# Altium footprint library QFN_Sq_65P_Side_N.PcbLib: 52 footprints (part 4 of 4)
Each footprint in its own frame and in the unit in brackets; x right, y up, seen from the top. Pads: shape width x height; smd on the part's side, far side on the other; paste and mask are expansions set on the pad; w line width, h text height; cw(c..) or ccw(c..) is an arc to the next point about the centre after c.
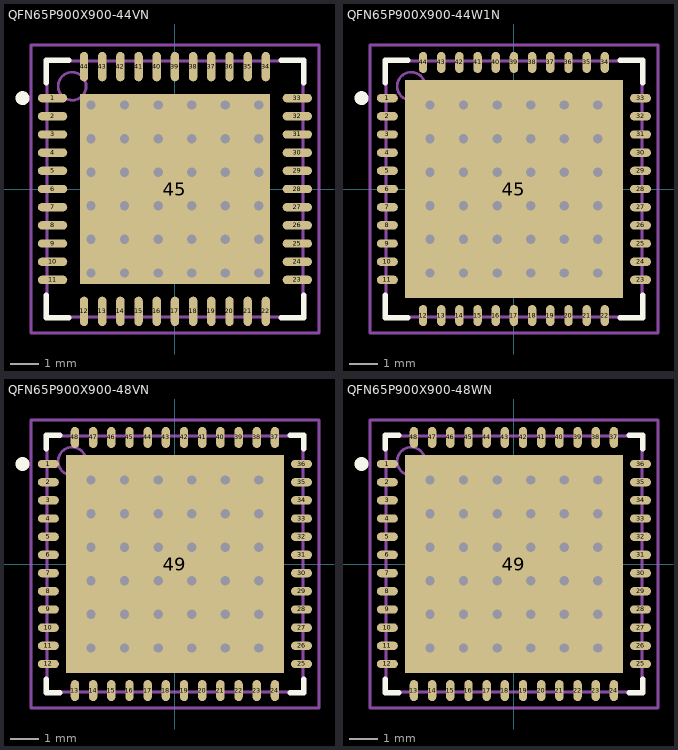
[diagram p3: the footprints below, top view; thin cyan lines are the x and y axes]

## QFN65P900X900-44VN [mm] "QFN, 44-Leads, Body 9x9 mm, Pitch 0.65mm, IPC Medium Density"
height 1
pads (45):
  oval 1.05x0.3 smd: 1(-4.375,3.25) 2(-4.375,2.6) 3(-4.375,1.95) 4(-4.375,1.3) 5(-4.375,0.65) 6(-4.375,0) 7(-4.375,-0.65) 8(-4.375,-1.3) 9(-4.375,-1.95) 10(-4.375,-2.6) 11(-4.375,-3.25) 23(4.375,-3.25) 24(4.375,-2.6) 25(4.375,-1.95) 26(4.375,-1.3) 27(4.375,-0.65) 28(4.375,0) 29(4.375,0.65) 30(4.375,1.3) 31(4.375,1.95) 32(4.375,2.6) 33(4.375,3.25)
  oval 0.3x1.05 smd: 12(-3.25,-4.375) 13(-2.6,-4.375) 14(-1.95,-4.375) 15(-1.3,-4.375) 16(-0.65,-4.375) 17(0,-4.375) 18(0.65,-4.375) 19(1.3,-4.375) 20(1.95,-4.375) 21(2.6,-4.375) 22(3.25,-4.375) 34(3.25,4.375) 35(2.6,4.375) 36(1.95,4.375) 37(1.3,4.375) 38(0.65,4.375) 39(0,4.375) 40(-0.65,4.375) 41(-1.3,4.375) 42(-1.95,4.375) 43(-2.6,4.375) 44(-3.25,4.375)
  rect 6.8x6.8 smd: 45(0,0)
via -3,3 diameter 0.66 hole 0.33
via -1.8,3 diameter 0.66 hole 0.33
via -0.6,3 diameter 0.66 hole 0.33
via 0.6,3 diameter 0.66 hole 0.33
via 1.8,3 diameter 0.66 hole 0.33
via 3,3 diameter 0.66 hole 0.33
via -3,1.8 diameter 0.66 hole 0.33
via -1.8,1.8 diameter 0.66 hole 0.33
via -0.6,1.8 diameter 0.66 hole 0.33
via 0.6,1.8 diameter 0.66 hole 0.33
via 1.8,1.8 diameter 0.66 hole 0.33
via 3,1.8 diameter 0.66 hole 0.33
via -3,0.6 diameter 0.66 hole 0.33
via -1.8,0.6 diameter 0.66 hole 0.33
via -0.6,0.6 diameter 0.66 hole 0.33
via 0.6,0.6 diameter 0.66 hole 0.33
via 1.8,0.6 diameter 0.66 hole 0.33
via 3,0.6 diameter 0.66 hole 0.33
via -3,-0.6 diameter 0.66 hole 0.33
via -1.8,-0.6 diameter 0.66 hole 0.33
via -0.6,-0.6 diameter 0.66 hole 0.33
via 0.6,-0.6 diameter 0.66 hole 0.33
via 1.8,-0.6 diameter 0.66 hole 0.33
via 3,-0.6 diameter 0.66 hole 0.33
via -3,-1.8 diameter 0.66 hole 0.33
via -1.8,-1.8 diameter 0.66 hole 0.33
via -0.6,-1.8 diameter 0.66 hole 0.33
via 0.6,-1.8 diameter 0.66 hole 0.33
via 1.8,-1.8 diameter 0.66 hole 0.33
via 3,-1.8 diameter 0.66 hole 0.33
via -3,-3 diameter 0.66 hole 0.33
via -1.8,-3 diameter 0.66 hole 0.33
via -0.6,-3 diameter 0.66 hole 0.33
via 0.6,-3 diameter 0.66 hole 0.33
via 1.8,-3 diameter 0.66 hole 0.33
via 3,-3 diameter 0.66 hole 0.33
Top Overlay:
  circle w0.25: c-5.45,3.25 r0.125
  lines w0.2: -4.6,-3.8 -4.6,-4.6 -3.8,-4.6 ; -4.6,3.8 -4.6,4.6 -3.8,4.6 ; 3.8,-4.6 4.6,-4.6 4.6,-3.8 ; 3.8,4.6 4.6,4.6 4.6,3.8
Mechanical 13:
  circle w0.1: c-3.675,3.675 r0.5
  lines w0.1: -4.575,-4.575 -4.575,4.575 4.575,4.575 4.575,-4.575 -4.575,-4.575
Mechanical 15:
  lines w0.1: -0.5,0 0.5,0 ; 0,-0.5 0,0.5 ; -5.15,-5.15 -5.15,5.15 5.15,5.15 5.15,-5.15 -5.15,-5.15
3D body: height 1, standoff 0, extent -4.575,-4.575 4.575,4.575

## QFN65P900X900-44W1N [mm] "QFN, 44-Leads, Body 9x9 mm, Pitch 0.65mm, IPC Medium Density"
height 0.8
pads (45):
  oval 0.75x0.3 smd: 1(-4.525,3.25) 2(-4.525,2.6) 3(-4.525,1.95) 4(-4.525,1.3) 5(-4.525,0.65) 6(-4.525,0) 7(-4.525,-0.65) 8(-4.525,-1.3) 9(-4.525,-1.95) 10(-4.525,-2.6) 11(-4.525,-3.25) 23(4.525,-3.25) 24(4.525,-2.6) 25(4.525,-1.95) 26(4.525,-1.3) 27(4.525,-0.65) 28(4.525,0) 29(4.525,0.65) 30(4.525,1.3) 31(4.525,1.95) 32(4.525,2.6) 33(4.525,3.25)
  oval 0.3x0.75 smd: 12(-3.25,-4.525) 13(-2.6,-4.525) 14(-1.95,-4.525) 15(-1.3,-4.525) 16(-0.65,-4.525) 17(0,-4.525) 18(0.65,-4.525) 19(1.3,-4.525) 20(1.95,-4.525) 21(2.6,-4.525) 22(3.25,-4.525) 34(3.25,4.525) 35(2.6,4.525) 36(1.95,4.525) 37(1.3,4.525) 38(0.65,4.525) 39(0,4.525) 40(-0.65,4.525) 41(-1.3,4.525) 42(-1.95,4.525) 43(-2.6,4.525) 44(-3.25,4.525)
  rect 7.8x7.8 smd: 45(0,0)
via 3,-3 diameter 0.66 hole 0.33
via 1.8,-3 diameter 0.66 hole 0.33
via 0.6,-3 diameter 0.66 hole 0.33
via -0.6,-3 diameter 0.66 hole 0.33
via -1.8,-3 diameter 0.66 hole 0.33
via -3,-3 diameter 0.66 hole 0.33
via 3,-1.8 diameter 0.66 hole 0.33
via 1.8,-1.8 diameter 0.66 hole 0.33
via 0.6,-1.8 diameter 0.66 hole 0.33
via -0.6,-1.8 diameter 0.66 hole 0.33
via -1.8,-1.8 diameter 0.66 hole 0.33
via -3,-1.8 diameter 0.66 hole 0.33
via 3,-0.6 diameter 0.66 hole 0.33
via 1.8,-0.6 diameter 0.66 hole 0.33
via 0.6,-0.6 diameter 0.66 hole 0.33
via -0.6,-0.6 diameter 0.66 hole 0.33
via -1.8,-0.6 diameter 0.66 hole 0.33
via -3,-0.6 diameter 0.66 hole 0.33
via 3,0.6 diameter 0.66 hole 0.33
via 1.8,0.6 diameter 0.66 hole 0.33
via 0.6,0.6 diameter 0.66 hole 0.33
via -0.6,0.6 diameter 0.66 hole 0.33
via -1.8,0.6 diameter 0.66 hole 0.33
via -3,0.6 diameter 0.66 hole 0.33
via 3,1.8 diameter 0.66 hole 0.33
via 1.8,1.8 diameter 0.66 hole 0.33
via 0.6,1.8 diameter 0.66 hole 0.33
via -0.6,1.8 diameter 0.66 hole 0.33
via -1.8,1.8 diameter 0.66 hole 0.33
via -3,1.8 diameter 0.66 hole 0.33
via 3,3 diameter 0.66 hole 0.33
via 1.8,3 diameter 0.66 hole 0.33
via 0.6,3 diameter 0.66 hole 0.33
via -0.6,3 diameter 0.66 hole 0.33
via -1.8,3 diameter 0.66 hole 0.33
via -3,3 diameter 0.66 hole 0.33
Top Overlay:
  circle w0.25: c-5.45,3.25 r0.125
  lines w0.2: -4.6,-3.8 -4.6,-4.6 -3.8,-4.6 ; -4.6,3.8 -4.6,4.6 -3.8,4.6 ; 3.8,-4.6 4.6,-4.6 4.6,-3.8 ; 3.8,4.6 4.6,4.6 4.6,3.8
Mechanical 13:
  circle w0.1: c-3.675,3.675 r0.5
  lines w0.1: -4.575,-4.575 4.575,-4.575 4.575,4.575 -4.575,4.575 -4.575,-4.575
Mechanical 15:
  lines w0.1: -0.5,0 0.5,0 ; 0,-0.5 0,0.5 ; -5.15,-5.15 5.15,-5.15 5.15,5.15 -5.15,5.15 -5.15,-5.15
3D body: height 0.8, standoff 0, extent -4.575,-4.575 4.575,4.575

## QFN65P900X900-48VN [mm] "QFN, 48-Leads, Body 9x9 mm, Pitch 0.65mm, IPC Medium Density"
height 1
pads (49):
  oval 0.75x0.3 smd: 1(-4.525,3.575) 2(-4.525,2.925) 3(-4.525,2.275) 4(-4.525,1.625) 5(-4.525,0.975) 6(-4.525,0.325) 7(-4.525,-0.325) 8(-4.525,-0.975) 9(-4.525,-1.625) 10(-4.525,-2.275) 11(-4.525,-2.925) 12(-4.525,-3.575) 25(4.525,-3.575) 26(4.525,-2.925) 27(4.525,-2.275) 28(4.525,-1.625) 29(4.525,-0.975) 30(4.525,-0.325) 31(4.525,0.325) 32(4.525,0.975) 33(4.525,1.625) 34(4.525,2.275) 35(4.525,2.925) 36(4.525,3.575)
  oval 0.3x0.75 smd: 13(-3.575,-4.525) 14(-2.925,-4.525) 15(-2.275,-4.525) 16(-1.625,-4.525) 17(-0.975,-4.525) 18(-0.325,-4.525) 19(0.325,-4.525) 20(0.975,-4.525) 21(1.625,-4.525) 22(2.275,-4.525) 23(2.925,-4.525) 24(3.575,-4.525) 37(3.575,4.525) 38(2.925,4.525) 39(2.275,4.525) 40(1.625,4.525) 41(0.975,4.525) 42(0.325,4.525) 43(-0.325,4.525) 44(-0.975,4.525) 45(-1.625,4.525) 46(-2.275,4.525) 47(-2.925,4.525) 48(-3.575,4.525)
  rect 7.8x7.8 smd: 49(0,0)
via -3,3 diameter 0.66 hole 0.33
via -1.8,3 diameter 0.66 hole 0.33
via -0.6,3 diameter 0.66 hole 0.33
via 0.6,3 diameter 0.66 hole 0.33
via 1.8,3 diameter 0.66 hole 0.33
via 3,3 diameter 0.66 hole 0.33
via -3,1.8 diameter 0.66 hole 0.33
via -1.8,1.8 diameter 0.66 hole 0.33
via -0.6,1.8 diameter 0.66 hole 0.33
via 0.6,1.8 diameter 0.66 hole 0.33
via 1.8,1.8 diameter 0.66 hole 0.33
via 3,1.8 diameter 0.66 hole 0.33
via -3,0.6 diameter 0.66 hole 0.33
via -1.8,0.6 diameter 0.66 hole 0.33
via -0.6,0.6 diameter 0.66 hole 0.33
via 0.6,0.6 diameter 0.66 hole 0.33
via 1.8,0.6 diameter 0.66 hole 0.33
via 3,0.6 diameter 0.66 hole 0.33
via -3,-0.6 diameter 0.66 hole 0.33
via -1.8,-0.6 diameter 0.66 hole 0.33
via -0.6,-0.6 diameter 0.66 hole 0.33
via 0.6,-0.6 diameter 0.66 hole 0.33
via 1.8,-0.6 diameter 0.66 hole 0.33
via 3,-0.6 diameter 0.66 hole 0.33
via -3,-1.8 diameter 0.66 hole 0.33
via -1.8,-1.8 diameter 0.66 hole 0.33
via -0.6,-1.8 diameter 0.66 hole 0.33
via 0.6,-1.8 diameter 0.66 hole 0.33
via 1.8,-1.8 diameter 0.66 hole 0.33
via 3,-1.8 diameter 0.66 hole 0.33
via -3,-3 diameter 0.66 hole 0.33
via -1.8,-3 diameter 0.66 hole 0.33
via -0.6,-3 diameter 0.66 hole 0.33
via 0.6,-3 diameter 0.66 hole 0.33
via 1.8,-3 diameter 0.66 hole 0.33
via 3,-3 diameter 0.66 hole 0.33
Top Overlay:
  circle w0.25: c-5.45,3.575 r0.125
  lines w0.2: -4.6,-4.125 -4.6,-4.6 -4.125,-4.6 ; -4.6,4.125 -4.6,4.6 -4.125,4.6 ; 4.125,-4.6 4.6,-4.6 4.6,-4.125 ; 4.125,4.6 4.6,4.6 4.6,4.125
Mechanical 13:
  circle w0.1: c-3.675,3.675 r0.5
  lines w0.1: -4.575,-4.575 -4.575,4.575 4.575,4.575 4.575,-4.575 -4.575,-4.575
Mechanical 15:
  lines w0.1: -0.5,0 0.5,0 ; 0,-0.5 0,0.5 ; -5.15,-5.15 -5.15,5.15 5.15,5.15 5.15,-5.15 -5.15,-5.15
3D body: height 1, standoff 0, extent -4.575,-4.575 4.575,4.575

## QFN65P900X900-48WN [mm] "QFN, 48-Leads, Body 9x9 mm, Pitch 0.65mm, IPC Medium Density"
height 0.8
pads (49):
  oval 0.75x0.3 smd: 1(-4.525,3.575) 2(-4.525,2.925) 3(-4.525,2.275) 4(-4.525,1.625) 5(-4.525,0.975) 6(-4.525,0.325) 7(-4.525,-0.325) 8(-4.525,-0.975) 9(-4.525,-1.625) 10(-4.525,-2.275) 11(-4.525,-2.925) 12(-4.525,-3.575) 25(4.525,-3.575) 26(4.525,-2.925) 27(4.525,-2.275) 28(4.525,-1.625) 29(4.525,-0.975) 30(4.525,-0.325) 31(4.525,0.325) 32(4.525,0.975) 33(4.525,1.625) 34(4.525,2.275) 35(4.525,2.925) 36(4.525,3.575)
  oval 0.3x0.75 smd: 13(-3.575,-4.525) 14(-2.925,-4.525) 15(-2.275,-4.525) 16(-1.625,-4.525) 17(-0.975,-4.525) 18(-0.325,-4.525) 19(0.325,-4.525) 20(0.975,-4.525) 21(1.625,-4.525) 22(2.275,-4.525) 23(2.925,-4.525) 24(3.575,-4.525) 37(3.575,4.525) 38(2.925,4.525) 39(2.275,4.525) 40(1.625,4.525) 41(0.975,4.525) 42(0.325,4.525) 43(-0.325,4.525) 44(-0.975,4.525) 45(-1.625,4.525) 46(-2.275,4.525) 47(-2.925,4.525) 48(-3.575,4.525)
  rect 7.8x7.8 smd: 49(0,0)
via -3,3 diameter 0.66 hole 0.33
via -1.8,3 diameter 0.66 hole 0.33
via -0.6,3 diameter 0.66 hole 0.33
via 0.6,3 diameter 0.66 hole 0.33
via 1.8,3 diameter 0.66 hole 0.33
via 3,3 diameter 0.66 hole 0.33
via -3,1.8 diameter 0.66 hole 0.33
via -1.8,1.8 diameter 0.66 hole 0.33
via -0.6,1.8 diameter 0.66 hole 0.33
via 0.6,1.8 diameter 0.66 hole 0.33
via 1.8,1.8 diameter 0.66 hole 0.33
via 3,1.8 diameter 0.66 hole 0.33
via -3,0.6 diameter 0.66 hole 0.33
via -1.8,0.6 diameter 0.66 hole 0.33
via -0.6,0.6 diameter 0.66 hole 0.33
via 0.6,0.6 diameter 0.66 hole 0.33
via 1.8,0.6 diameter 0.66 hole 0.33
via 3,0.6 diameter 0.66 hole 0.33
via -3,-0.6 diameter 0.66 hole 0.33
via -1.8,-0.6 diameter 0.66 hole 0.33
via -0.6,-0.6 diameter 0.66 hole 0.33
via 0.6,-0.6 diameter 0.66 hole 0.33
via 1.8,-0.6 diameter 0.66 hole 0.33
via 3,-0.6 diameter 0.66 hole 0.33
via -3,-1.8 diameter 0.66 hole 0.33
via -1.8,-1.8 diameter 0.66 hole 0.33
via -0.6,-1.8 diameter 0.66 hole 0.33
via 0.6,-1.8 diameter 0.66 hole 0.33
via 1.8,-1.8 diameter 0.66 hole 0.33
via 3,-1.8 diameter 0.66 hole 0.33
via -3,-3 diameter 0.66 hole 0.33
via -1.8,-3 diameter 0.66 hole 0.33
via -0.6,-3 diameter 0.66 hole 0.33
via 0.6,-3 diameter 0.66 hole 0.33
via 1.8,-3 diameter 0.66 hole 0.33
via 3,-3 diameter 0.66 hole 0.33
Top Overlay:
  circle w0.25: c-5.45,3.575 r0.125
  lines w0.2: -4.6,-4.125 -4.6,-4.6 -4.125,-4.6 ; -4.6,4.125 -4.6,4.6 -4.125,4.6 ; 4.125,-4.6 4.6,-4.6 4.6,-4.125 ; 4.125,4.6 4.6,4.6 4.6,4.125
Mechanical 13:
  circle w0.1: c-3.675,3.675 r0.5
  lines w0.1: -4.575,-4.575 -4.575,4.575 4.575,4.575 4.575,-4.575 -4.575,-4.575
Mechanical 15:
  lines w0.1: -0.5,0 0.5,0 ; 0,-0.5 0,0.5 ; -5.15,-5.15 -5.15,5.15 5.15,5.15 5.15,-5.15 -5.15,-5.15
3D body: height 0.8, standoff 0, extent -4.575,-4.575 4.575,4.575